# Altium schematic symbol library Voltage Translator, I2C - Nxp, NVT2002DP.SchLib: 1 symbol
Pins are listed as number, name and electrical type; pins without a type are passive.

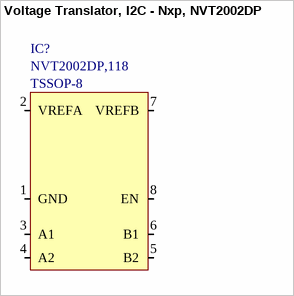
[diagram p0: symbol Voltage Translator, I2C - Nxp, NVT2002DP]

## Voltage Translator, I2C - Nxp, NVT2002DP
designator IC?  Manufacturer Part Number: NVT2002DP,118  Package: TSSOP-8  (hidden comment: *)
IC, Interface, I2C, TSSOP-8; Manufacturer: Nxp; ComponentLink1Description: Datasheet; ComponentLink1URL: E:\Altium\Datasheets\IC - Interface\Voltage Translator, I2C - Nxp, NVT2001, NVT2002.pdf; ComponentLink2Description: Supplier Link; ComponentLink2URL: https://www.digikey.com/en/products/detail/nxp-usa-inc/NVT2002DP-118/2355938; Supplier: Digikey; Supplier Part Number: 568-5121-1-ND; Operating Temperature, Min: -40℃; Operating Temperature, Max: +85℃; Quantity, Min: 1; Quantity, Max: 5000; Price, Min: 0.94; Supplier Currency: $; Price, Max: 0.35985; Supplier Link: https://www.digikey.com/en/products/detail/nxp-usa-inc/NVT2002DP-118/2355938; Component Type: Interface; Component Category: IC
footprint TSSOP-8, Body 3mm, Pitch 0.65mm
pins: 1 GND, 2 VREFA, 3 A1, 4 A2, 5 B2, 6 B1, 7 VREFB, 8 EN